# Altium schematic symbol library PusbuttonV2.SchLib: 1 symbol
Pins are listed as number, name and electrical type; pins without a type are passive.

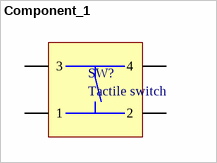
[diagram p0: symbol Component_1]

## Component_1
designator SW?, comment Tactile switch
pins: 1 "input", 2 "input", 3 "input", 4 "input"